# Altium footprint library AMIDA7.PcbLib: 36 footprints (part 3 of 3)
Each footprint in its own frame and in the unit in brackets; x right, y up, seen from the top. Pads: shape width x height; smd on the part's side, far side on the other; paste and mask are expansions set on the pad; w line width, h text height; cw(c..) or ccw(c..) is an arc to the next point about the centre after c.
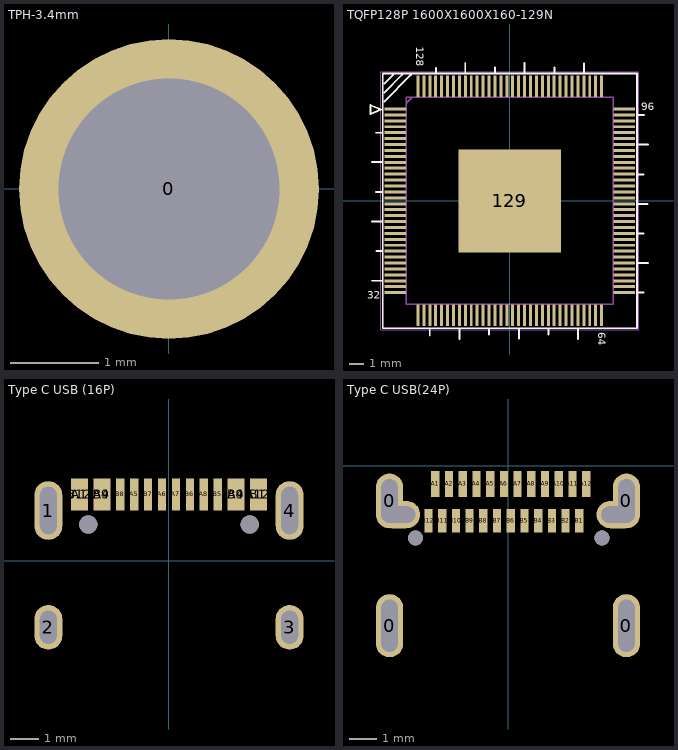
[diagram p2: the footprints below, top view; thin cyan lines are the x and y axes]

## TPH-3.4mm [mm]
pads (1):
  round 3.4 hole 2.5: 0(0,0)

## TQFP128P 1600X1600X160-129N [mm] "GPA7740A"
pads (129):
  rect 1.45x0.2 smd: 1(-7.725,6.2) 2(-7.725,5.8) 3(-7.725,5.4) 4(-7.725,5) 5(-7.725,4.6) 6(-7.725,4.2) 7(-7.725,3.8) 8(-7.725,3.4) 9(-7.725,3) 10(-7.725,2.6) 11(-7.725,2.2) 12(-7.725,1.8) 13(-7.725,1.4) 14(-7.725,1) 15(-7.725,0.6) 16(-7.725,0.2) 17(-7.725,-0.2) 18(-7.725,-0.6) 19(-7.725,-1) 20(-7.725,-1.4) 21(-7.725,-1.8) 22(-7.725,-2.2) 23(-7.725,-2.6) 24(-7.725,-3) 25(-7.725,-3.4) 26(-7.725,-3.8) 27(-7.725,-4.2) 28(-7.725,-4.6) 29(-7.725,-5) 30(-7.725,-5.4) 31(-7.725,-5.8) 32(-7.725,-6.2) 65(7.725,-6.2) 66(7.725,-5.8) 67(7.725,-5.4) 68(7.725,-5) 69(7.725,-4.6) 70(7.725,-4.2) 71(7.725,-3.8) 72(7.725,-3.4) 73(7.725,-3) 74(7.725,-2.6) 75(7.725,-2.2) 76(7.725,-1.8) 77(7.725,-1.4) 78(7.725,-1) 79(7.725,-0.6) 80(7.725,-0.2) 81(7.725,0.2) 82(7.725,0.6) 83(7.725,1) 84(7.725,1.4) 85(7.725,1.8) 86(7.725,2.2) 87(7.725,2.6) 88(7.725,3) 89(7.725,3.4) 90(7.725,3.8) 91(7.725,4.2) 92(7.725,4.6) 93(7.725,5) 94(7.725,5.4) 95(7.725,5.8) 96(7.725,6.2)
  rect 0.2x1.45 smd: 33(-6.2,-7.725) 34(-5.8,-7.725) 35(-5.4,-7.725) 36(-5,-7.725) 37(-4.6,-7.725) 38(-4.2,-7.725) 39(-3.8,-7.725) 40(-3.4,-7.725) 41(-3,-7.725) 42(-2.6,-7.725) 43(-2.2,-7.725) 44(-1.8,-7.725) 45(-1.4,-7.725) 46(-1,-7.725) 47(-0.6,-7.725) 48(-0.2,-7.725) 49(0.2,-7.725) 50(0.6,-7.725) 51(1,-7.725) 52(1.4,-7.725) 53(1.8,-7.725) 54(2.2,-7.725) 55(2.6,-7.725) 56(3,-7.725) 57(3.4,-7.725) 58(3.8,-7.725) 59(4.2,-7.725) 60(4.6,-7.725) 61(5,-7.725) 62(5.4,-7.725) 63(5.8,-7.725) 64(6.2,-7.725) 97(6.2,7.725) 98(5.8,7.725) 99(5.4,7.725) 100(5,7.725) 101(4.6,7.725) 102(4.2,7.725) 103(3.8,7.725) 104(3.4,7.725) 105(3,7.725) 106(2.6,7.725) 107(2.2,7.725) 108(1.8,7.725) 109(1.4,7.725) 110(1,7.725) 111(0.6,7.725) 112(0.2,7.725) 113(-0.2,7.725) 114(-0.6,7.725) 115(-1,7.725) 116(-1.4,7.725) 117(-1.8,7.725) 118(-2.2,7.725) 119(-2.6,7.725) 120(-3,7.725) 121(-3.4,7.725) 122(-3.8,7.725) 123(-4.2,7.725) 124(-4.6,7.725) 125(-5,7.725) 126(-5.4,7.725) 127(-5.8,7.725) 128(-6.2,7.725)
  rect 6.95x6.95 smd: 129(0,0)
Top Overlay:
  lines w0.127: -9.318,-1.389 -8.618,-1.389 ; -9.304,2.611 -8.604,2.611 ; -9.293,-5.4 -8.593,-5.4 ; -9.03,4.597 -8.63,4.597 ; -9.024,0.6 -8.624,0.6 ; -8.985,-3.397 -8.585,-3.397 ; -8.476,6.703 -6.676,8.503 ; -8.476,7.303 -7.276,8.503 ; -8.476,7.903 -7.876,8.503 ; -5.403,-9.086 -5.403,-8.686 ; -4.981,8.584 -4.981,8.984 ; -3.4,-9.325 -3.4,-8.625 ; -3.003,8.598 -3.003,9.298 ; -1.395,-9.039 -1.395,-8.639 ; -1.001,8.612 -1.001,9.012 ; 0.614,-9.311 0.614,-8.611 ; 0.994,8.592 0.994,9.292 ; 2.614,-9.044 2.614,-8.644 ; 3.013,8.59 3.013,8.99 ; 4.619,-9.33 4.619,-8.63 ; 5.002,8.588 5.002,9.288 ; 8.591,-0.216 9.291,-0.216 ; 8.619,1.784 9.019,1.784 ; 8.623,-2.206 9.023,-2.206 ; 8.635,-4.188 9.335,-4.188 ; 8.644,-6.201 9.044,-6.201 ; 8.651,3.794 9.351,3.794 ; 8.684,5.794 9.084,5.794 ; -9.394,5.857 -9.394,6.457 -8.694,6.157 -9.394,5.857 ; -8.577,-8.604 8.593,-8.604 8.593,8.585 -8.577,8.585 -8.577,-8.604
  text "32" at -9.623,-6.623 h0.51
  text "64" at 5.983,-8.863 h0.51
  text "96" at 8.877,6.127 h0.51
  text "128" at -6.33,10.417 h0.51
Mechanical 15:
  lines w0.1: -7,6.6 -6.6,7 ; -7,-7 7,-7 7,7 -7,7 -7,-7
Mechanical 20:
  lines w0.05: -8.7,-8.7 8.7,-8.7 8.7,8.7 -8.7,8.7 -8.7,-8.7
3D body "T113-s3.stp": height 1.6, standoff 0, extent -8,-8 8,8

## Type C USB (16P) [mm]
pads (22):
  oval 1x2.1 hole 0.6 slot 1.7 at 90 deg: 1(-4.32,1.803) 4(4.32,1.803)
  oval 1x1.6 hole 0.6 slot 1.2 at 90 deg: 2(-4.32,-2.377) 3(4.32,-2.377)
  rect 0.6x1.15 smd: A1(-3.2,2.378) A4(-2.4,2.378) A9(2.4,2.378) A12(3.2,2.378) B1(3.2,2.378) B4(2.4,2.378) B9(-2.4,2.378) B12(-3.2,2.378)
  rect 0.3x1.15 smd: A5(-1.25,2.378) A6(-0.25,2.378) A7(0.25,2.378) A8(1.25,2.378) B5(1.75,2.378) B6(0.75,2.378) B7(-0.75,2.378) B8(-1.75,2.378)
  round 0.65 hole 0.65: ""(-2.89,1.303) ""(2.89,1.303)
Top Layer:
  lines w0.254: 4.268,-2.527 4.32,-2.527
Top Overlay:
  lines w0.254: 4.32,-2.527 4.35,-2.527 4.375,-2.527
Multi-Layer:
  lines w0.254: 4.32,-2.527 4.325,-2.527

## Type C USB(24P) [mm]
pads (32):
  oval 1x2.3 hole 0.6 slot 1.9 at 90 deg: 0(-4.32,-5.825) 0(4.32,-5.825)
  oval 1x2 hole 0.6 slot 1.6 at 90 deg: 0(-4.32,-1.275) 0(4.32,-1.275)
  rect 0.3x0.95 smd: A1(-2.65,-0.65) A2(-2.15,-0.65) A3(-1.65,-0.65) A4(-1.15,-0.65) A5(-0.65,-0.65) A6(-0.15,-0.65) A7(0.35,-0.65) A8(0.85,-0.65) A9(1.35,-0.65) A10(1.85,-0.65) A11(2.35,-0.65) A12(2.85,-0.65)
  rect 0.3x0.85 smd: B1(2.6,-2) B2(2.1,-2) B3(1.6,-2) B4(1.1,-2) B5(0.6,-2) B6(0.1,-2) B7(-0.4,-2) B8(-0.9,-2) B9(-1.4,-2) B10(-1.9,-2) B11(-2.4,-2) B12(-2.9,-2)
  oval 1.54x1 hole 0.6 slot 1.2 at 0 deg: ""(-3.975,-1.775) ""(4,-1.775)
  round 0.55 hole 0.55: ""(-3.375,-2.625) ""(3.425,-2.625)
Top Layer:
  lines w0.254: 4.268,-5.975 4.32,-5.975
Top Overlay:
  lines w0.254: 4.32,-5.975 4.35,-5.975 4.375,-5.975
Multi-Layer:
  lines w0.254: 4.32,-5.975 4.325,-5.975